# Altium footprint library DS1307.PcbLib: 1 footprints
Each footprint in its own frame and in the unit in brackets; x right, y up, seen from the top. Pads: shape width x height; smd on the part's side, far side on the other; paste and mask are expansions set on the pad; w line width, h text height; cw(c..) or ccw(c..) is an arc to the next point about the centre after c.
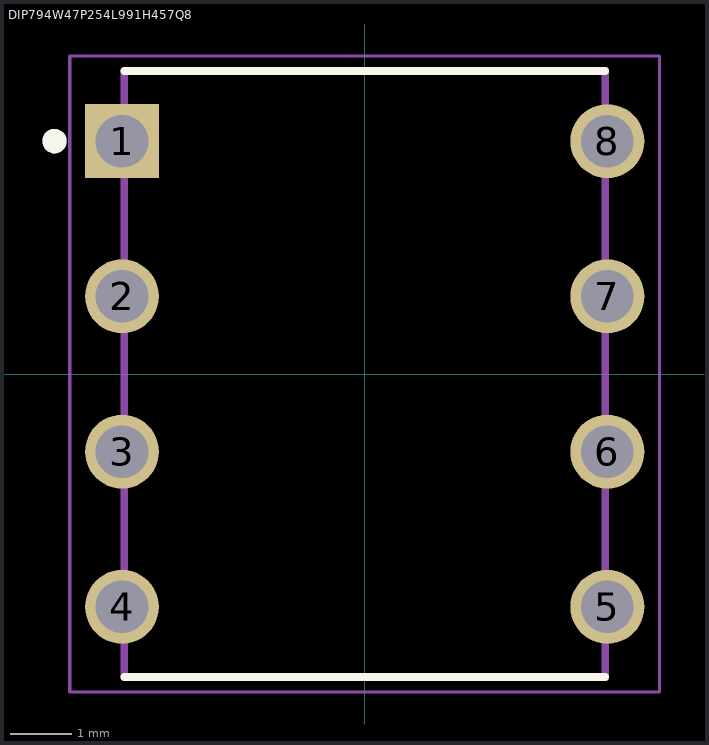
[diagram p0: the footprint, top view; thin cyan lines are the x and y axes]

## DIP794W47P254L991H457Q8 [mm]
pads (8):
  rect 1.21x1.21 hole 0.86: 1(-3.97,3.81)
  round 1.21 hole 0.86: 2(-3.97,1.27) 3(-3.97,-1.27) 4(-3.97,-3.81) 5(3.97,-3.81) 6(3.97,-1.27) 7(3.97,1.27) 8(3.97,3.81)
Top Overlay:
  circle w0.2: c-5.075,3.81 r0.1
  lines w0.127: -3.935,-4.955 3.935,-4.955 ; -3.935,4.955 3.935,4.955
Mechanical 13:
  circle w0.2: c-5.075,3.81 r0.1
  lines w0.127: -3.935,-4.955 -3.935,4.955 3.935,4.955 3.935,-4.955 -3.935,-4.955
Mechanical 15:
  lines w0.05: -4.825,-5.205 -4.825,5.205 4.825,5.205 4.825,-5.205 -4.825,-5.205
3D body "step_temp.STEP": height 4.57, standoff -3.81, extent -3.949,-4.687 3.949,4.687